# EAGLE library part TSM-120-XX-XXX-DV (library TSM-120-XX-XXX-DV)
.100" (2,54mm) Surface Mount, Double Row, Vertical Mount. manufacturer:SAMTEC
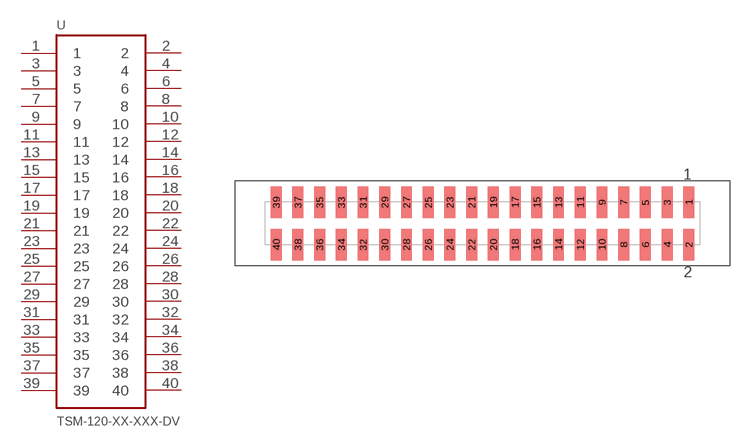
[diagram p0: symbol with the pads of TSM-120-XX-XXX-D; footprint TSM-120-XX-XXX-D]

Designator prefix -

## TSM-120-XX-XXX-DV (DESCRIPTION: CONN HEADER 30POS SMT VERT 30AU; MANUFACTURER: 3M; MPN: N2530-6V0C-RB-WF)  [TSM-120-XX-XXX-D]
1  1
2  2
3  3
4  4
5  5
6  6
7  7
8  8
9  9
10  10
11  11
12  12
13  13
14  14
15  15
16  16
17  17
18  18
19  19
20  20
21  21
22  22
23  23
24  24
25  25
26  26
27  27
28  28
29  29
30  30
31  31
32  32
33  33
34  34
35  35
36  36
37  37
38  38
39  39
40  40

## Footprint TSM-120-XX-XXX-D (pad centres in mm)
.100" (2,54mm) Surface Mount, Double Row, Vertical Mount. manufacturer:SAMTEC
smd 1.27 x 3.683: 1 24.13,2.477; 2 24.13,-2.477; 3 21.59,2.477; 4 21.59,-2.477; 5 19.05,2.477; 6 19.05,-2.477; 7 16.51,2.477; 8 16.51,-2.477; 9 13.97,2.477; 10 13.97,-2.477; 11 11.43,2.477; 12 11.43,-2.477; 13 8.89,2.477; 14 8.89,-2.477; 15 6.35,2.477; 16 6.35,-2.477; 17 3.81,2.477; 18 3.81,-2.477; 19 1.27,2.477; 20 1.27,-2.477; 21 -1.27,2.477; 22 -1.27,-2.477; 23 -3.81,2.477; 24 -3.81,-2.477; 25 -6.35,2.477; 26 -6.35,-2.477; 27 -8.89,2.477; 28 -8.89,-2.477; 29 -11.43,2.477; 30 -11.43,-2.477; 31 -13.97,2.477; 32 -13.97,-2.477; 33 -16.51,2.477; 34 -16.51,-2.477; 35 -19.05,2.477; 36 -19.05,-2.477; 37 -21.59,2.477; 38 -21.59,-2.477; 39 -24.13,2.477; 40 -24.13,-2.477